# Altium footprint library Optic transceiver.PcbLib: 5 footprints
Each footprint in its own frame and in the unit in brackets; x right, y up, seen from the top. Pads: shape width x height; smd on the part's side, far side on the other; paste and mask are expansions set on the pad; w line width, h text height; cw(c..) or ccw(c..) is an arc to the next point about the centre after c.
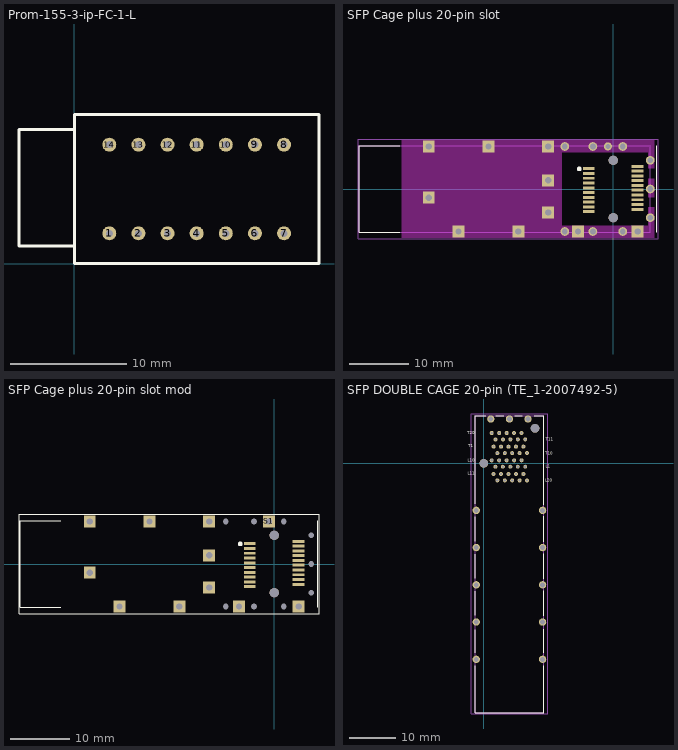
[diagram p0: the footprints below, top view; thin cyan lines are the x and y axes]

## Prom-155-3-ip-FC-1-L [mm]
pads (14):
  round 1.2 hole 0.6: 1(3,2.6) 2(5.5,2.6) 3(8,2.6) 4(10.5,2.6) 5(13,2.6) 6(15.5,2.6) 7(18,2.6) 8(18,10.2) 9(15.5,10.2) 10(13,10.2) 11(10.5,10.2) 12(8,10.2) 13(5.5,10.2) 14(3,10.2)
Top Overlay:
  lines w0.254: 0,1.5 -4.75,1.5 ; 0,11.5 -4.75,11.5 ; -4.75,1.5 -4.75,1.5 ; -4.75,1.5 -4.75,11.5 ; -4.75,11.5 -4.75,11.5 ; 0,0 0,12.8 21,12.8 21,0 0,0

## Prom-155-cl [mm]

## SFP Cage plus 20-pin slot [mm]
pads (42):
  rect 2x0.5 smd: 1(-4.1,3.4) 2(-4.1,2.6) 3(-4.1,1.8) 4(-4.1,1) 5(-4.1,0.2) 6(-4.1,-0.6) 7(-4.1,-1.4) 8(-4.1,-2.2) 9(-4.1,-3) 10(-4.1,-3.8) 11(4.1,-3.4) 12(4.1,-2.6) 13(4.1,-1.8) 14(4.1,-1) 15(4.1,-0.2) 16(4.1,0.6) 17(4.1,1.4) 18(4.1,2.2) 19(4.1,3) 20(4.1,3.8)
  round 1.358 hole 0.85: S1(-0.9,7.125)
  round 1.458 hole 0.95: S2(1.6,7.125) S3(-3.4,7.125) S4(-8.1,7.125) S5(6.2,4.8) S6(6.2,0) S7(6.2,-4.8) S8(1.6,-7.125) S9(-3.4,-7.125) S10(-8.1,-7.125)
  rect 2x2 hole 1.05: S11(-10.9,7.125) S12(-20.9,7.125) S13(-30.9,7.125) S14(-10.9,1.45) S15(-30.9,-1.45) S16(-10.9,-3.95) S17(-25.9,-7.125) S18(-15.9,-7.125) S19(-5.9,-7.125) S20(4.1,-7.125)
  round 1.55 hole 1.55 unplated: ""(0,-4.8) ""(0,4.8)
Top Overlay:
  circle w0.4: c-5.7,3.375 r0.2
  lines w0.127: -35.75,-7.25 -42.5,-7.25 -42.5,7.25 -35.75,7.25 ; 7.25,-7.25 7.25,7.25
Keep-Out Layer:
  region: 6.9,-1.355 5.9,-1.355 5.9,1.745 6.9,1.745
  region: 6.9,3.445 5.9,3.445 5.9,6.125 -8.6,6.125 -8.6,-6.125 5.9,-6.125 5.9,-3.055 6.9,-3.055 6.9,-8.125 -35.4,-8.125 -35.4,8.125 6.9,8.125
  region: 6.9,-1.355 5.9,-1.355 5.9,1.745 6.9,1.745
  region: 6.9,3.445 5.9,3.445 5.9,6.125 -8.6,6.125 -8.6,-6.125 5.9,-6.125 5.9,-3.055 6.9,-3.055 6.9,-8.125 -35.4,-8.125 -35.4,8.125 6.9,8.125
  region: 6.9,-1.355 5.9,-1.355 5.9,1.745 6.9,1.745
  region: 6.9,3.445 5.9,3.445 5.9,6.125 -8.6,6.125 -8.6,-6.125 5.9,-6.125 5.9,-3.055 6.9,-3.055 6.9,-8.125 -35.4,-8.125 -35.4,8.125 6.9,8.125
Mechanical 13:
  lines w0.127: -42.5,-7.25 -42.5,7.25 6.2,7.25 6.2,-7.25 -42.5,-7.25
Mechanical 15:
  lines w0.05: -42.75,-8.375 -42.75,8.375 7.5,8.375 7.5,-8.375 -42.75,-8.375

## SFP Cage plus 20-pin slot mod [mm]
pads (42):
  rect 2x0.5 smd: 1(-4.1,3.4) 2(-4.1,2.6) 3(-4.1,1.8) 4(-4.1,1) 5(-4.1,0.2) 6(-4.1,-0.6) 7(-4.1,-1.4) 8(-4.1,-2.2) 9(-4.1,-3) 10(-4.1,-3.8) 11(4.1,-3.4) 12(4.1,-2.6) 13(4.1,-1.8) 14(4.1,-1) 15(4.1,-0.2) 16(4.1,0.6) 17(4.1,1.4) 18(4.1,2.2) 19(4.1,3) 20(4.1,3.8)
  rect 2x2 hole 1.05: S1(-0.9,7.125) S11(-10.9,7.125) S12(-20.9,7.125) S13(-30.9,7.125) S14(-10.9,1.45) S15(-30.9,-1.45) S16(-10.9,-3.95) S17(-25.9,-7.125) S18(-15.9,-7.125) S19(-5.9,-7.125) S20(4.1,-7.125)
  round 0 hole 0.95 unplated: S2(1.6,7.125) S3(-3.4,7.125) S4(-8.1,7.125) S5(6.2,4.8) S6(6.2,0) S7(6.2,-4.8) S8(1.6,-7.125) S9(-3.4,-7.125) S10(-8.1,-7.125)
  round 1.55 hole 1.55 unplated: ""(0,-4.8) ""(0,4.8)
Top Overlay:
  circle w0.4: c-5.7,3.375 r0.2
  lines w0.05: -42.75,-8.375 -42.75,8.375 7.5,8.375 7.5,-8.375 -42.75,-8.375
  lines w0.127: -35.75,-7.25 -42.5,-7.25 -42.5,7.25 -35.75,7.25 ; 7.25,-7.25 7.25,7.25

## SFP DOUBLE CAGE 20-pin (TE_1-2007492-5) [mm]
pads (55):
  round 0.86 hole 0.46: L1(8.9,-0.73) L2(8.1,0.65) L3(7.3,-0.73) L4(6.5,0.65) L5(5.7,-0.73) L6(4.9,0.65) L7(4.1,-0.73) L8(3.3,0.65) L9(2.5,-0.73) L10(1.7,0.65) L11(2.1,-2.28) L12(2.9,-3.67) L13(3.7,-2.28) L14(4.5,-3.67) L15(5.3,-2.28) L16(6.1,-3.67) L17(6.9,-2.28) L18(7.7,-3.67) L19(8.5,-2.28) L20(9.3,-3.67) T1(2.1,3.59) T2(2.9,2.2) T3(3.7,3.59) T4(4.5,2.2) T5(5.3,3.59) T6(6.1,2.2) T7(6.9,3.59) T8(7.7,2.2) T9(8.5,3.59) T10(9.3,2.2) T11(8.9,5.14) T12(8.1,6.52) T13(7.3,5.14) T14(6.5,6.52) T15(5.7,5.14) T16(4.9,6.52) T17(4.1,5.14) T18(3.3,6.52) T19(2.5,5.14) T20(1.7,6.52)
  round 1.575 hole 1.05: SH1(-1.625,-42.1) SH2(12.625,-42.1) SH3(-1.625,-34.1) SH4(12.625,-34.1) SH5(-1.625,-26.1) SH6(12.625,-26.1) SH7(-1.625,-18.1) SH8(12.625,-18.1) SH9(-1.625,-10.1) SH10(12.625,-10.1) SH11(1.5,9.525) SH12(5.5,9.525) SH13(9.5,9.525)
  round 1.85 hole 1.85 unplated: ""(0,0) ""(11,7.5)
Top Overlay:
  lines w0.127: -1.83,-43.5 -1.83,-53.6 12.83,-53.6 12.83,-43.5 ; -1.83,-40.7 -1.83,-35.7 ; -1.83,-32.6 -1.83,-27.5 ; -1.83,-24.7 -1.83,-19.5 ; -1.83,-16.7 -1.83,-11.5 ; -1.83,-8.7 -1.83,10.2 0.4,10.2 ; 2.6,10.2 4.3,10.2 ; 6.6,10.2 8.3,10.2 ; 10.8,10.2 12.83,10.2 12.83,-8.9 ; 12.83,-40.7 12.83,-35.6 ; 12.83,-32.7 12.83,-27.4 ; 12.83,-24.8 12.83,-19.4 ; 12.83,-16.8 12.83,-11.4
  text "L20" at 13.232,-3.964 h0.61
  text "L11" at -3.443,-2.452 h0.61
  text "L10" at -3.493,0.29 h0.61
  text "L1" at 13.323,-0.992 h0.61
  text "T10" at 13.244,1.821 h0.61
  text "T1" at -3.371,3.441 h0.61
  text "T20" at -3.544,6.297 h0.61
  text "T11" at 13.303,4.888 h0.61
Mechanical 13:
  lines w0.127: -1.83,-53.6 -1.83,10.2 12.83,10.2 12.83,-53.6 -1.83,-53.6
Mechanical 15:
  lines w0.05: -2.65,-53.85 -2.65,10.6 13.7,10.6 13.7,-53.85 -2.65,-53.85